# EAGLE library part 691323300007 (library Wurth_Connectors_WR-TBL Pluggable Connector)
WR-TBL Serie 3233 - 3.81 mm Vertical PCB Header with Flanges KIND PROPERTIES Pitch 3.81 mm MATERIAL PROPERTIES Insulator Material PA66 Insulator Flammability Rating UL94 V-0 Contact Material Brass Contact Plating Tin GENERAL INFORMATION Operating Temperature -40 up to +105 °C Compliance RoHS ELECTRICAL PROPERTIES IR cULus 10 A IR VDE 10.5 A Working Voltage [cULus] 300 V (AC) Working Voltage [VDE] 300 V (AC) Withstanding Voltage [cULus] 1600 V (AC) Withstanding Voltage [VDE] 2500 V (AC) Contact Resistance [cULus] 20 mΩ Contact Resistance [VDE] 20 mΩ CERTIFICATION cULus Approval E315414 VDE Approval 40023195 <https://www.we-online.com/catalog/media/o33279v209%20Family_WR-TBL_69132330000x.jpg> Details see: https://www.we-online.com/catalog/en/TBL_3_81_3233_VERTICAL_PCB_HEADER_W_FLANGES_69132330000X/ Updated by Ella Wu 2022-07-25 2022(C) Wurth Elektronik
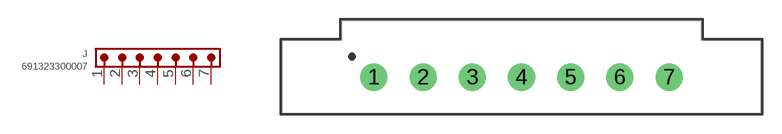
[diagram p187: symbol with the pads of 691323300007; footprint 691323300007]

Designator prefix J

## 691323300007 (DATASHEET-URL: https://www.we-online.com/redexpert/spec/691323300007?ae; IR-UL: 10A; IR-VDE: 10.5A; MOUNT: THT; PART-NUMBER: 691323300007; PINS: 7; PITCH: 3.81mm; TYPE: Vertical; VALUE: 691323300007; WORKING-VOLTAGE-UL: 300V (AC); WORKING-VOLTAGE-VDE: 300V (AC))  [691323300007]
1  1  pas
2  2  pas
3  3  pas
4  4  pas
5  5  pas
6  6  pas
7  7  pas

## Footprint 691323300007 (pad centres in mm)
WR-TBL Serie 3233 - 3.81 mm Vertical PCB Header with Flanges Max Height = 9.2mm , Pitch 3.81mm , 7pins
drill 1.4: 1 -11.43,0; 2 -7.62,0; 3 -3.81,0; 4 0,0; 5 3.81,0; 6 7.62,0; 7 11.43,0